# Altium footprint library OPL_IC.PCBLIB: 32 footprints (part 2 of 2)
Each footprint in its own frame and in the unit in brackets; x right, y up, seen from the top. Pads: shape width x height; smd on the part's side, far side on the other; paste and mask are expansions set on the pad; w line width, h text height; cw(c..) or ccw(c..) is an arc to the next point about the centre after c.
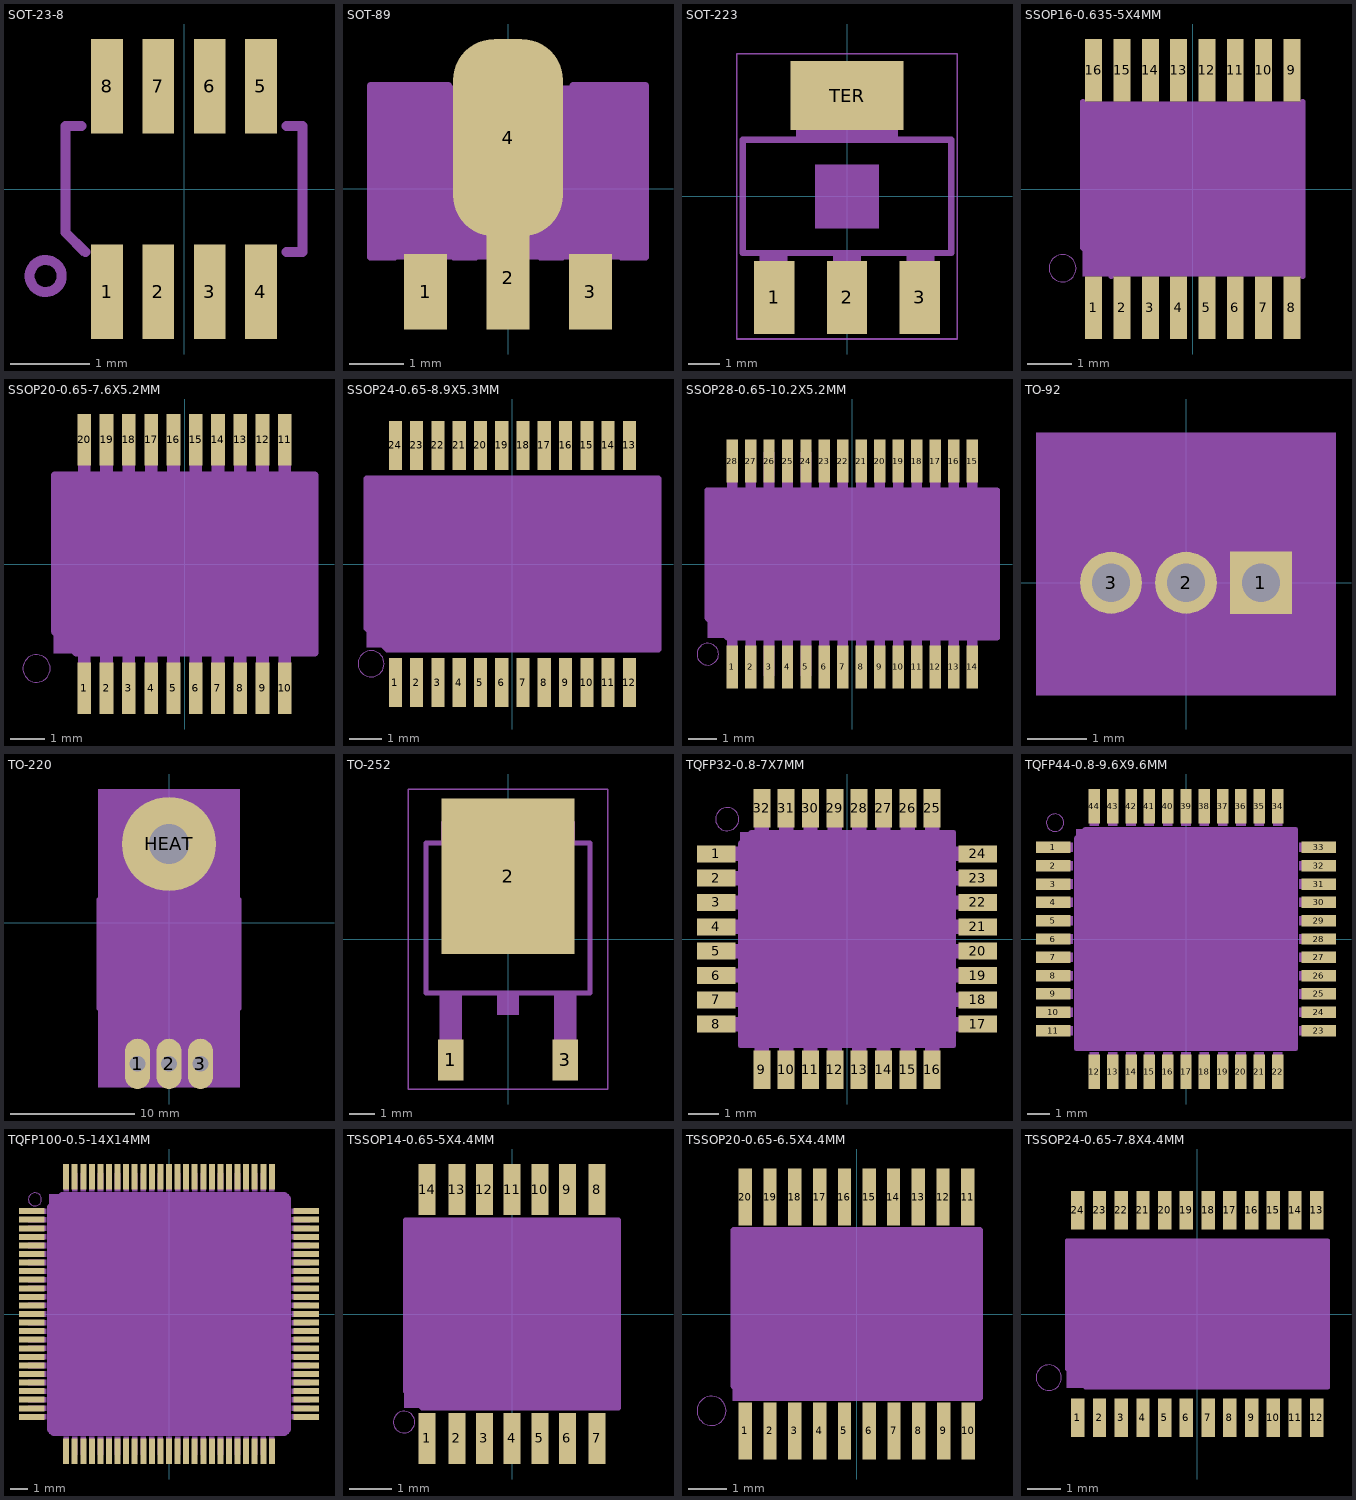
[diagram p1: the footprints below, top view; thin cyan lines are the x and y axes]

## SOT-23-8 [mm]
pads (8):
  rect 0.4x1.2 smd: 1(-0.975,-1.3) 2(-0.325,-1.3) 3(0.325,-1.3) 4(0.975,-1.3) 5(0.975,1.3) 6(0.325,1.3) 7(-0.325,1.3) 8(-0.975,1.3)
Mechanical 2:
  circle w0.127: c-1.752,-1.102 r0.203
  lines w0.127: -1.3,0.8 -1.5,0.8 -1.5,-0.55 -1.25,-0.8 ; 1.3,-0.8 1.5,-0.8 1.5,0.8 1.3,0.8

## SOT-89 [mil]
pads (4):
  rect 31.5x55.12 smd: 1(-60,-75) 3(60,-75)
  rect 31.5x74.8 smd paste-37.4 mask-37.4: 2(0,-65)
  rrect75% 80x143.7 smd: 4(0,37.01)
Top Paste:
  region: -15.75,-105.51 -15.75,-50.39 15.75,-50.39 15.75,-105.51
Top Solder:
  region: -19.69,-109.45 -19.69,-46.46 19.69,-46.46 19.69,-109.45
Mechanical 2:
  lines w5: -100,-50 -100,75 ; -98.43,-50 -82.68,-50 ; -98.43,75 -43.31,75 ; -39.37,-50 -23.62,-50 ; 23.62,-50 39.37,-50 ; 47.24,75 100,75 100,-50 ; 82.68,-50 98.43,-50
Mechanical 8:
  region: -68,-83 -68,-50 -50,-50 -50,-83
  region: 50,-83 50,-50 68,-50 68,-83
  region: -11,-83 -11,-50 11,-50 11,-83
  region: 0,0 10,0 10,10 0,10
  lines w5: -87.99,-49.02 87.99,-49.02 87.99,47.99 -87.99,47.99 -87.99,-49.02
  lines w7.87: -31,51 31,51 31,62 14,79 -14,79 -31,62 -31,51
Mech34:
  region: -100,-50 -100,75 100,75 100,-50

## SOT-223 [mil]
pads (4):
  rect 50x90 smd: 1(-90,-125) 2(0,-125) 3(90,-125)
  rect 140x85 smd: TER(0,125)
Mechanical 2:
  lines w8: -129.02,-70 129.02,-70 129.02,70 -129.02,70 -129.02,-70
Mechanical 8:
  region: -63,71 -63,144 63,144 63,71
  region: -17,-144 -17,-71 17,-71 17,-144
  region: -108,-144 -108,-71 -74,-71 -74,-144
  region: 74,-144 74,-71 108,-71 108,-144
  region: -63,71 -63,144 63,144 63,71
  region: -17,-144 -17,-71 17,-71 17,-144
  region: -108,-144 -108,-71 -74,-71 -74,-144
  region: 74,-144 74,-71 108,-71 108,-144
Mechanical 30:
  region: -39.37,-39.37 -39.37,39.37 39.37,39.37 39.37,-39.37
Mech34:
  lines w2: -136.73,-176.5 136.73,-176.5 136.73,176.5 -136.73,176.5 -136.73,-176.5

## SSOP16-0.635-5X4MM [mil]
pads (16):
  rect 15x55 smd: 1(-87.5,-105) 2(-62.5,-105) 3(-37.5,-105) 4(-12.5,-105) 5(12.5,-105) 6(37.5,-105) 7(62.5,-105) 8(87.5,-105) 9(87.5,105) 10(62.5,105) 11(37.5,105) 12(12.5,105) 13(-12.5,105) 14(-37.5,105) 15(-62.5,105) 16(-87.5,105)
Mechanical 2:
  circle w0: c-115,-70 r12
  lines w5: -97,77 -97,-51.94 -71.94,-77 ; 97,-77 97,77
Mech34:
  region: -97,-77 -97,77 97,77 97,-77

## SSOP20-0.65-7.6X5.2MM [mm]
pads (20):
  rect 0.4x1.5 smd: 1(-2.925,-3.625) 2(-2.275,-3.625) 3(-1.625,-3.625) 4(-0.975,-3.625) 5(-0.325,-3.625) 6(0.325,-3.625) 7(0.975,-3.625) 8(1.625,-3.625) 9(2.275,-3.625) 10(2.925,-3.625) 11(2.925,3.625) 12(2.275,3.625) 13(1.625,3.625) 14(0.975,3.625) 15(0.325,3.625) 16(-0.325,3.625) 17(-0.975,3.625) 18(-1.625,3.625) 19(-2.275,3.625) 20(-2.925,3.625)
Mechanical 2:
  circle w0: c-4.318,-3.048 r0.4
  lines w0.127: -3.825,2.575 -3.8,2.575
  lines w0.203: -3.8,2.575 -3.8,-1.965 -3.165,-2.6 3.8,-2.6 3.8,2.6 -3.8,2.6
Mechanical 8:
  region: -3.103,-3.937 -3.103,-2.642 -2.747,-2.642 -2.747,-3.937
  region: -2.453,-3.937 -2.453,-2.642 -2.097,-2.642 -2.097,-3.937
  region: -1.803,-3.937 -1.803,-2.642 -1.447,-2.642 -1.447,-3.937
  region: -1.153,-3.937 -1.153,-2.642 -0.797,-2.642 -0.797,-3.937
  region: -0.503,-3.937 -0.503,-2.642 -0.147,-2.642 -0.147,-3.937
  region: 0.147,-3.937 0.147,-2.642 0.503,-2.642 0.503,-3.937
  region: 0.797,-3.937 0.797,-2.642 1.153,-2.642 1.153,-3.937
  region: 1.447,-3.937 1.447,-2.642 1.803,-2.642 1.803,-3.937
  region: 2.097,-3.937 2.097,-2.642 2.453,-2.642 2.453,-3.937
  region: 2.747,-3.937 2.747,-2.642 3.103,-2.642 3.103,-3.937
  region: 2.747,2.642 2.747,3.937 3.103,3.937 3.103,2.642
  region: 2.097,2.642 2.097,3.937 2.453,3.937 2.453,2.642
  region: 1.447,2.642 1.447,3.937 1.803,3.937 1.803,2.642
  region: 0.797,2.642 0.797,3.937 1.153,3.937 1.153,2.642
  region: 0.147,2.642 0.147,3.937 0.503,3.937 0.503,2.642
  region: -0.503,2.642 -0.503,3.937 -0.147,3.937 -0.147,2.642
  region: -1.153,2.642 -1.153,3.937 -0.797,3.937 -0.797,2.642
  region: -1.803,2.642 -1.803,3.937 -1.447,3.937 -1.447,2.642
  region: -2.453,2.642 -2.453,3.937 -2.097,3.937 -2.097,2.642
  region: -3.103,2.642 -3.103,3.937 -2.747,3.937 -2.747,2.642
Mech34:
  region: -3.81,-2.6 -3.81,2.6 3.81,2.6 3.81,-2.6

## SSOP24-0.65-8.9X5.3MM [mm]
pads (24):
  rect 0.4x1.5 smd: 1(-3.575,-3.625) 2(-2.925,-3.625) 3(-2.275,-3.625) 4(-1.625,-3.625) 5(-0.975,-3.625) 6(-0.325,-3.625) 7(0.325,-3.625) 8(0.975,-3.625) 9(1.625,-3.625) 10(2.275,-3.625) 11(2.925,-3.625) 12(3.575,-3.625) 13(3.575,3.625) 14(2.925,3.625) 15(2.275,3.625) 16(1.625,3.625) 17(0.975,3.625) 18(0.325,3.625) 19(-0.325,3.625) 20(-0.975,3.625) 21(-1.625,3.625) 22(-2.275,3.625) 23(-2.925,3.625) 24(-3.575,3.625)
Mechanical 2:
  circle w0: c-4.318,-3.048 r0.4
  lines w0.203: -4.45,2.575 -4.45,-1.965 -3.815,-2.6 4.45,-2.6 4.45,2.6 -4.45,2.6
Mech34:
  region: -4.445,-2.54 -4.445,2.54 4.445,2.54 4.445,-2.54

## SSOP28-0.65-10.2X5.2MM [mm]
pads (28):
  rect 0.4x1.5 smd: 1(-4.225,-3.625) 2(-3.575,-3.625) 3(-2.925,-3.625) 4(-2.275,-3.625) 5(-1.625,-3.625) 6(-0.975,-3.625) 7(-0.325,-3.625) 8(0.325,-3.625) 9(0.975,-3.625) 10(1.625,-3.625) 11(2.275,-3.625) 12(2.925,-3.625) 13(3.575,-3.625) 14(4.225,-3.625) 15(4.225,3.625) 16(3.575,3.625) 17(2.925,3.625) 18(2.275,3.625) 19(1.625,3.625) 20(0.975,3.625) 21(0.325,3.625) 22(-0.325,3.625) 23(-0.975,3.625) 24(-1.625,3.625) 25(-2.275,3.625) 26(-2.925,3.625) 27(-3.575,3.625) 28(-4.225,3.625)
Mechanical 2:
  circle w0: c-5.08,-3.175 r0.381
  lines w0.203: -5.1,-1.89 -5.1,2.6 5.1,2.6 5.1,-2.6 -4.39,-2.6 -5.1,-1.89
Mechanical 8:
  region: -4.403,-3.937 -4.403,-2.642 -4.047,-2.642 -4.047,-3.937
  region: -3.753,-3.937 -3.753,-2.642 -3.397,-2.642 -3.397,-3.937
  region: -3.103,-3.937 -3.103,-2.642 -2.747,-2.642 -2.747,-3.937
  region: -2.453,-3.937 -2.453,-2.642 -2.097,-2.642 -2.097,-3.937
  region: -1.803,-3.937 -1.803,-2.642 -1.447,-2.642 -1.447,-3.937
  region: -1.153,-3.937 -1.153,-2.642 -0.797,-2.642 -0.797,-3.937
  region: -0.503,-3.937 -0.503,-2.642 -0.147,-2.642 -0.147,-3.937
  region: 0.147,-3.937 0.147,-2.642 0.503,-2.642 0.503,-3.937
  region: 0.797,-3.937 0.797,-2.642 1.153,-2.642 1.153,-3.937
  region: 1.447,-3.937 1.447,-2.642 1.803,-2.642 1.803,-3.937
  region: 2.097,-3.937 2.097,-2.642 2.453,-2.642 2.453,-3.937
  region: 2.747,-3.937 2.747,-2.642 3.103,-2.642 3.103,-3.937
  region: 3.397,-3.937 3.397,-2.642 3.753,-2.642 3.753,-3.937
  region: 4.047,-3.937 4.047,-2.642 4.403,-2.642 4.403,-3.937
  region: 4.047,2.642 4.047,3.937 4.403,3.937 4.403,2.642
  region: 3.397,2.642 3.397,3.937 3.753,3.937 3.753,2.642
  region: 2.747,2.642 2.747,3.937 3.103,3.937 3.103,2.642
  region: 2.097,2.642 2.097,3.937 2.453,3.937 2.453,2.642
  region: 1.447,2.642 1.447,3.937 1.803,3.937 1.803,2.642
  region: 0.797,2.642 0.797,3.937 1.153,3.937 1.153,2.642
  region: 0.147,2.642 0.147,3.937 0.503,3.937 0.503,2.642
  region: -0.503,2.642 -0.503,3.937 -0.147,3.937 -0.147,2.642
  region: -1.153,2.642 -1.153,3.937 -0.797,3.937 -0.797,2.642
  region: -1.803,2.642 -1.803,3.937 -1.447,3.937 -1.447,2.642
  region: -2.453,2.642 -2.453,3.937 -2.097,3.937 -2.097,2.642
  region: -3.103,2.642 -3.103,3.937 -2.747,3.937 -2.747,2.642
  region: -3.753,2.642 -3.753,3.937 -3.397,3.937 -3.397,2.642
  region: -4.403,2.642 -4.403,3.937 -4.047,3.937 -4.047,2.642
Mech34:
  region: -5.08,-2.6 -5.08,2.6 5.08,2.6 5.08,-2.6

## TO-92 [mm]
pads (3):
  rect 1.05x1.05 hole 0.65: 1(1.27,0)
  round 1.05 hole 0.65: 2(0,0) 3(-1.27,0)
Mechanical 2:
  lines w0.127: -2.35,-1.47 2.35,-1.47 2.35,0.15 ccw(c0.35,0.15) 0.35,2.15 -0.35,2.15 ccw(c-0.35,0.15) -2.35,0.15 -2.35,-1.47
Mech34:
  region: -2.54,-1.905 -2.54,2.54 2.54,2.54 2.54,-1.905

## TO-220 [mil]
pads (4):
  oval 80x160 hole 50: 1(-100,-450) 2(0,-450) 3(100,-450)
  round 300 hole 126: HEAT(0,250)
Mechanical 2:
  lines w10: -225,-275 225,-275 225,75 -225,75 -225,-275
Mech34:
  region: -225,-525 -225,425 225,425 225,-525

## TO-252 [mil]
pads (3):
  rect 40x65 smd: 1(-90,-190) 3(90,-190)
  rect 208.66x244.09 smd: 2(0,98.43)
Mechanical 2:
  region: -17,-119 -17,-89 17,-89 17,-119
  lines w8: -129,151 -129.02,-85 129.02,-85 129,151
Mechanical 8:
  region: -107,-203 -107,-89 -73,-89 -73,-203
  region: 73,-203 73,-89 107,-89 107,-203
  region: 0,0 10,0 10,10 0,10
  lines w8: -129.02,150.98 129.03,150.97 ; -101,155 -101,183 -83,201 83,201 101,183 101,155 -101,155
Mech34:
  lines w2: -156.42,-235.55 156.42,-235.55 156.42,235.55 -156.42,235.55 -156.42,-235.55

## TQFP32-0.8-7X7MM [mil]
pads (32):
  rect 50x22 smd: 1(-169,110.24) 2(-169,78.74) 3(-169,47.24) 4(-169,15.75) 5(-169,-15.75) 6(-169,-47.24) 7(-169,-78.74) 8(-169,-110.24) 17(169,-110.24) 18(169,-78.74) 19(169,-47.24) 20(169,-15.75) 21(169,15.75) 22(169,47.24) 23(169,78.74) 24(169,110.24)
  rect 22x50 smd: 9(-110.24,-169) 10(-78.74,-169) 11(-47.24,-169) 12(-15.75,-169) 13(15.75,-169) 14(47.24,-169) 15(78.74,-169) 16(110.24,-169) 25(110.24,169) 26(78.74,169) 27(47.24,169) 28(15.75,169) 29(-15.75,169) 30(-47.24,169) 31(-78.74,169) 32(-110.24,169)
Mechanical 2:
  circle w0: c-155,155 r15
  lines w6: -137.99,-137.99 137.99,-137.99 137.99,137.99 -124.02,137.99 -137.99,124.02 -137.99,-137.99
Mechanical 8:
  region: -179,101.24 -179,119.24 -140,119.24 -140,101.24
  region: -179,69.74 -179,87.74 -140,87.74 -140,69.74
  region: -179,38.24 -179,56.24 -140,56.24 -140,38.24
  region: -179,6.75 -179,24.75 -140,24.75 -140,6.75
  region: -179,-24.75 -179,-6.75 -140,-6.75 -140,-24.75
  region: -179,-56.24 -179,-38.24 -140,-38.24 -140,-56.24
  region: -179,-87.74 -179,-69.74 -140,-69.74 -140,-87.74
  region: -179,-119.24 -179,-101.24 -140,-101.24 -140,-119.24
  region: -119.24,-179 -119.24,-140 -101.24,-140 -101.24,-179
  region: -87.74,-179 -87.74,-140 -69.74,-140 -69.74,-179
  region: -56.24,-179 -56.24,-140 -38.24,-140 -38.24,-179
  region: -24.75,-179 -24.75,-140 -6.75,-140 -6.75,-179
  region: 6.75,-179 6.75,-140 24.75,-140 24.75,-179
  region: 38.24,-179 38.24,-140 56.24,-140 56.24,-179
  region: 69.74,-179 69.74,-140 87.74,-140 87.74,-179
  region: 101.24,-179 101.24,-140 119.24,-140 119.24,-179
  region: 140,-119.24 140,-101.24 179,-101.24 179,-119.24
  region: 140,-87.74 140,-69.74 179,-69.74 179,-87.74
  region: 140,-56.24 140,-38.24 179,-38.24 179,-56.24
  region: 140,-24.75 140,-6.75 179,-6.75 179,-24.75
  region: 140,6.75 140,24.75 179,24.75 179,6.75
  region: 140,38.24 140,56.24 179,56.24 179,38.24
  region: 140,69.74 140,87.74 179,87.74 179,69.74
  region: 140,101.24 140,119.24 179,119.24 179,101.24
  region: 101.24,140 101.24,179 119.24,179 119.24,140
  region: 69.74,140 69.74,179 87.74,179 87.74,140
  region: 38.24,140 38.24,179 56.24,179 56.24,140
  region: 6.75,140 6.75,179 24.75,179 24.75,140
  region: -24.75,140 -24.75,179 -6.75,179 -6.75,140
  region: -56.24,140 -56.24,179 -38.24,179 -38.24,140
  region: -87.74,140 -87.74,179 -69.74,179 -69.74,140
  region: -119.24,140 -119.24,179 -101.24,179 -101.24,140
Mech34:
  region: -137.99,-137.99 -137.99,137.99 137.99,137.99 137.99,-137.99

## TQFP44-0.8-9.6X9.6MM [mm]
pads (44):
  rect 1.5x0.5 smd: 1(-5.8,4) 2(-5.8,3.2) 3(-5.8,2.4) 4(-5.8,1.6) 5(-5.8,0.8) 6(-5.8,0) 7(-5.8,-0.8) 8(-5.8,-1.6) 9(-5.8,-2.4) 10(-5.8,-3.2) 11(-5.8,-4) 23(5.8,-4) 24(5.8,-3.2) 25(5.8,-2.4) 26(5.8,-1.6) 27(5.8,-0.8) 28(5.8,0) 29(5.8,0.8) 30(5.8,1.6) 31(5.8,2.4) 32(5.8,3.2) 33(5.8,4)
  rect 0.5x1.5 smd: 12(-4,-5.8) 13(-3.2,-5.8) 14(-2.4,-5.8) 15(-1.6,-5.8) 16(-0.8,-5.8) 17(0,-5.8) 18(0.8,-5.8) 19(1.6,-5.8) 20(2.4,-5.8) 21(3.2,-5.8) 22(4,-5.8) 34(4,5.8) 35(3.2,5.8) 36(2.4,5.8) 37(1.6,5.8) 38(0.8,5.8) 39(0,5.8) 40(-0.8,5.8) 41(-1.6,5.8) 42(-2.4,5.8) 43(-3.2,5.8) 44(-4,5.8)
Mechanical 2:
  circle w0: c-5.715,5.08 r0.381
  lines w0.203: -4.8,-4.8 4.8,-4.8 4.8,4.8 -4.4,4.8 -4.8,4.4 -4.8,-4.8
Mechanical 8:
  drawing of 44 lines, arcs and shapes, not listed
Mech34:
  region: -4.8,-4.8 -4.8,4.8 4.8,4.8 4.8,-4.8

## TQFP100-0.5-14X14MM [mm]
pads (100):
  rect 1.5x0.35 smd: 1(-8,6) 2(-8,5.5) 3(-8,5) 4(-8,4.5) 5(-8,4) 6(-8,3.5) 7(-8,3) 8(-8,2.5) 9(-8,2) 10(-8,1.5) 11(-8,1) 12(-8,0.5) 13(-8,0) 14(-8,-0.5) 15(-8,-1) 16(-8,-1.5) 17(-8,-2) 18(-8,-2.5) 19(-8,-3) 20(-8,-3.5) 21(-8,-4) 22(-8,-4.5) 23(-8,-5) 24(-8,-5.5) 25(-8,-6) 51(8,-6) 52(8,-5.5) 53(8,-5) 54(8,-4.5) 55(8,-4) 56(8,-3.5) 57(8,-3) 58(8,-2.5) 59(8,-2) 60(8,-1.5) 61(8,-1) 62(8,-0.5) 63(8,0) 64(8,0.5) 65(8,1) 66(8,1.5) 67(8,2) 68(8,2.5) 69(8,3) 70(8,3.5) 71(8,4) 72(8,4.5) 73(8,5) 74(8,5.5) 75(8,6)
  rect 0.35x1.5 smd: 26(-6,-8) 27(-5.5,-8) 28(-5,-8) 29(-4.5,-8) 30(-4,-8) 31(-3.5,-8) 32(-3,-8) 33(-2.5,-8) 34(-2,-8) 35(-1.5,-8) 36(-1,-8) 37(-0.5,-8) 38(0,-8) 39(0.5,-8) 40(1,-8) 41(1.5,-8) 42(2,-8) 43(2.5,-8) 44(3,-8) 45(3.5,-8) 46(4,-8) 47(4.5,-8) 48(5,-8) 49(5.5,-8) 50(6,-8) 76(6,8) 77(5.5,8) 78(5,8) 79(4.5,8) 80(4,8) 81(3.5,8) 82(3,8) 83(2.5,8) 84(2,8) 85(1.5,8) 86(1,8) 87(0.5,8) 88(0,8) 89(-0.5,8) 90(-1,8) 91(-1.5,8) 92(-2,8) 93(-2.5,8) 94(-3,8) 95(-3.5,8) 96(-4,8) 97(-4.5,8) 98(-5,8) 99(-5.5,8) 100(-6,8)
Mechanical 2:
  circle w0: c-7.82,6.685 r0.381
  lines w0.254: -7,-6.75 -6.75,-7 6.75,-7 7,-6.75 7,6.75 6.75,7 -6.25,7 -7,6.25 -7,-6.75
Mechanical 8:
  drawing of 108 lines, arcs and shapes, not listed
Mech34:
  region: -6.985,-6.985 -6.985,6.985 6.985,6.985 6.985,-6.985

## TSSOP14-0.65-5X4.4MM [mm]
pads (14):
  rect 0.4x1.2 smd: 1(-2,-2.925) 2(-1.3,-2.925) 3(-0.65,-2.925) 4(0,-2.925) 5(0.65,-2.925) 6(1.3,-2.925) 7(2,-2.925) 8(2,2.925) 9(1.3,2.925) 10(0.65,2.925) 11(0,2.925) 12(-0.65,2.925) 13(-1.3,2.925) 14(-2,2.925)
Mechanical 2:
  circle w0: c-2.54,-2.54 r0.254
  lines w0.127: -2.5,-1.819 -2.119,-2.2 2.5,-2.2 2.5,2.2 -2.5,2.2 -2.5,-1.819
Mech34:
  region: -2.54,-2.2 -2.54,2.2 2.54,2.2 2.54,-2.2

## TSSOP20-0.65-6.5X4.4MM [mm]
pads (20):
  rect 0.35x1.5 smd: 1(-2.925,-3.065) 2(-2.275,-3.065) 3(-1.625,-3.065) 4(-0.975,-3.065) 5(-0.325,-3.065) 6(0.325,-3.065) 7(0.975,-3.065) 8(1.625,-3.065) 9(2.275,-3.065) 10(2.925,-3.065) 11(2.91,3.065) 12(2.26,3.065) 13(1.61,3.065) 14(0.96,3.065) 15(0.325,3.065) 16(-0.325,3.065) 17(-0.975,3.065) 18(-1.625,3.065) 19(-2.275,3.065) 20(-2.925,3.065)
Mechanical 2:
  circle w0: c-3.81,-2.54 r0.381
  lines w0.127: -3.25,-1.896 -2.946,-2.2 3.25,-2.2 3.25,2.2 -3.25,2.2 -3.25,-1.896
Mech34:
  region: -3.25,-2.275 -3.25,2.275 3.25,2.275 3.25,-2.275

## TSSOP24-0.65-7.8X4.4MM [mm]
pads (24):
  rect 0.4x1.15 smd: 1(-3.575,-3.1) 2(-2.925,-3.1) 3(-2.275,-3.1) 4(-1.625,-3.1) 5(-0.975,-3.1) 6(-0.325,-3.1) 7(0.325,-3.1) 8(0.975,-3.1) 9(1.625,-3.1) 10(2.275,-3.1) 11(2.925,-3.1) 12(3.575,-3.1) 13(3.575,3.1) 14(2.925,3.1) 15(2.275,3.1) 16(1.625,3.1) 17(0.975,3.1) 18(0.325,3.1) 19(-0.325,3.1) 20(-0.975,3.1) 21(-1.625,3.1) 22(-2.275,3.1) 23(-2.925,3.1) 24(-3.575,3.1)
Mechanical 2:
  circle w0: c-4.445,-1.905 r0.381
  lines w0.127: -3.9,-1.644 -3.344,-2.2 3.9,-2.2 3.9,2.2 -3.9,2.2 -3.9,-1.644
Mech34:
  region: -3.9,-2.2 -3.9,2.2 3.9,2.2 3.9,-2.2